# Altium integrated library OpAmps.IntLib: 9 symbols
Pins are listed as number, name and electrical type; pins without a type are passive.

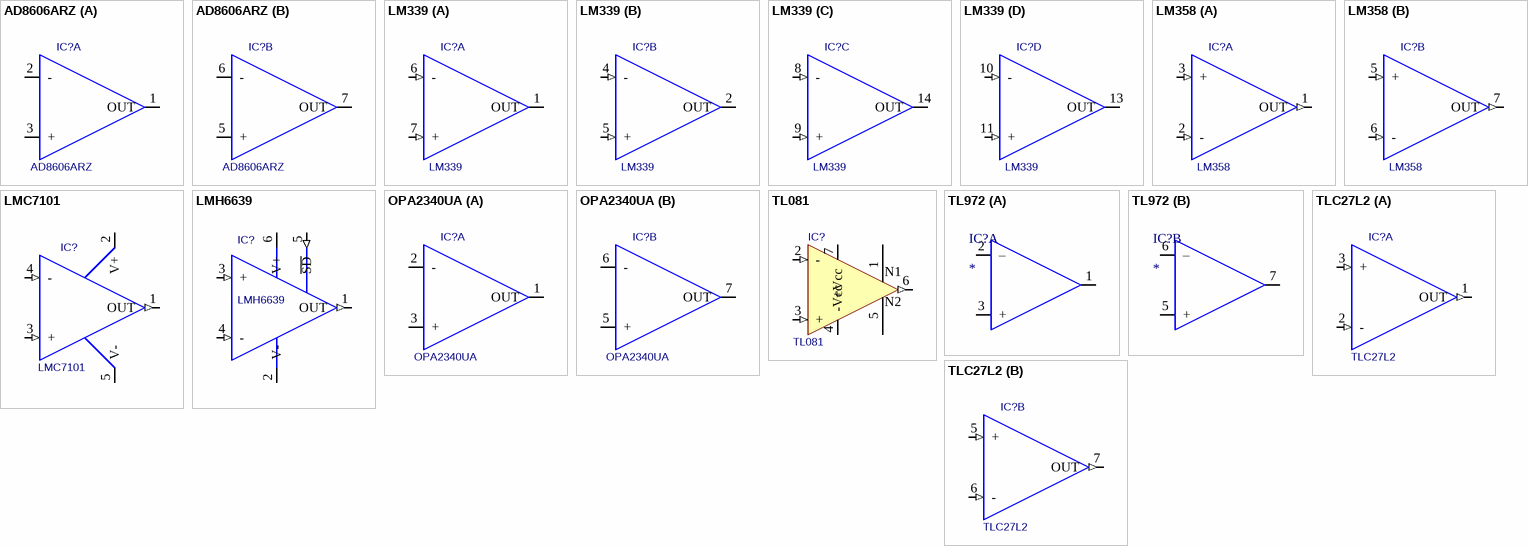
[diagram p0: symbols AD8606ARZ to TLC27L2]

## AD8606ARZ
designator IC?
Value: *
footprint SOIC8
pins on every part: 4 V- (power) hidden, 8 V+ (power) hidden
part A pins: 1 OUT, 2 -, 3 +
part B pins: 5 +, 6 -, 7 OUT

## LM339
designator IC?
Value: *
footprint DIP14
pins on every part: 3 V+ (power) hidden, 12 GND (power) hidden
part A pins: 1 OUT (oc), 6 - (in), 7 + (in)
part B pins: 2 OUT (oc), 4 - (in), 5 + (in)
part C pins: 8 - (in), 9 + (in), 14 OUT (oc)
part D pins: 10 - (in), 11 + (in), 13 OUT (oc)

## LM358
designator IC?
Value: *
footprint DIP8
pins on every part: 4 GND (power) hidden, 8 VDD (power) hidden
part A pins: 1 OUT (out), 2 - (in), 3 + (in)
part B pins: 5 + (in), 6 - (in), 7 OUT (out)

## LMC7101
designator IC?
Value: *
footprint SOT - 5 PIN
pins: 1 OUT (out), 2 V+ (power), 3 + (in), 4 - (in), 5 V- (power)

## LMH6639
designator IC?
Value: *
footprint SOT23-6
pins: 1 OUT (out), 2 V- (power), 3 + (in), 4 - (in), 5 ~{SD} (in), 6 V+ (power)

## OPA2340UA
designator IC?
Value: *
footprint SOIC8
pins on every part: 4 V- (power) hidden, 8 V+ (power) hidden
part A pins: 1 OUT, 2 -, 3 +
part B pins: 5 +, 6 -, 7 OUT

## TL081
designator IC?
OpAmp, JFET-Input, Ib=30pA, Ioff=5pA, Output SC protected; Value: *
footprint DIP8
pins: 1 N1, 2 - (in), 3 + (in), 4 -Vcc (power), 5 N2, 6 (out), 7 +Vcc (power), 8 hidden

## TL972
designator IC?
footprint SOIC-8N (SOIC, 8-Leads, Body 4.90x3.90mm, Pitch 1.27mm, IPC Medium Density)
part A pins: 1, 2 –, 3 +, 4 V– (power) hidden to GND, 8 V+ (power) hidden to VCC
part B pins: 5 +, 6 –, 7

## TLC27L2
designator IC?
Value: *
footprint DIP8
pins on every part: 4 GND (power) hidden, 8 VDD (power) hidden
part A pins: 1 OUT (out), 2 - (in), 3 + (in)
part B pins: 5 + (in), 6 - (in), 7 OUT (out)